# EAGLE library part DIMM84 (library con-amp2)
AMP connector
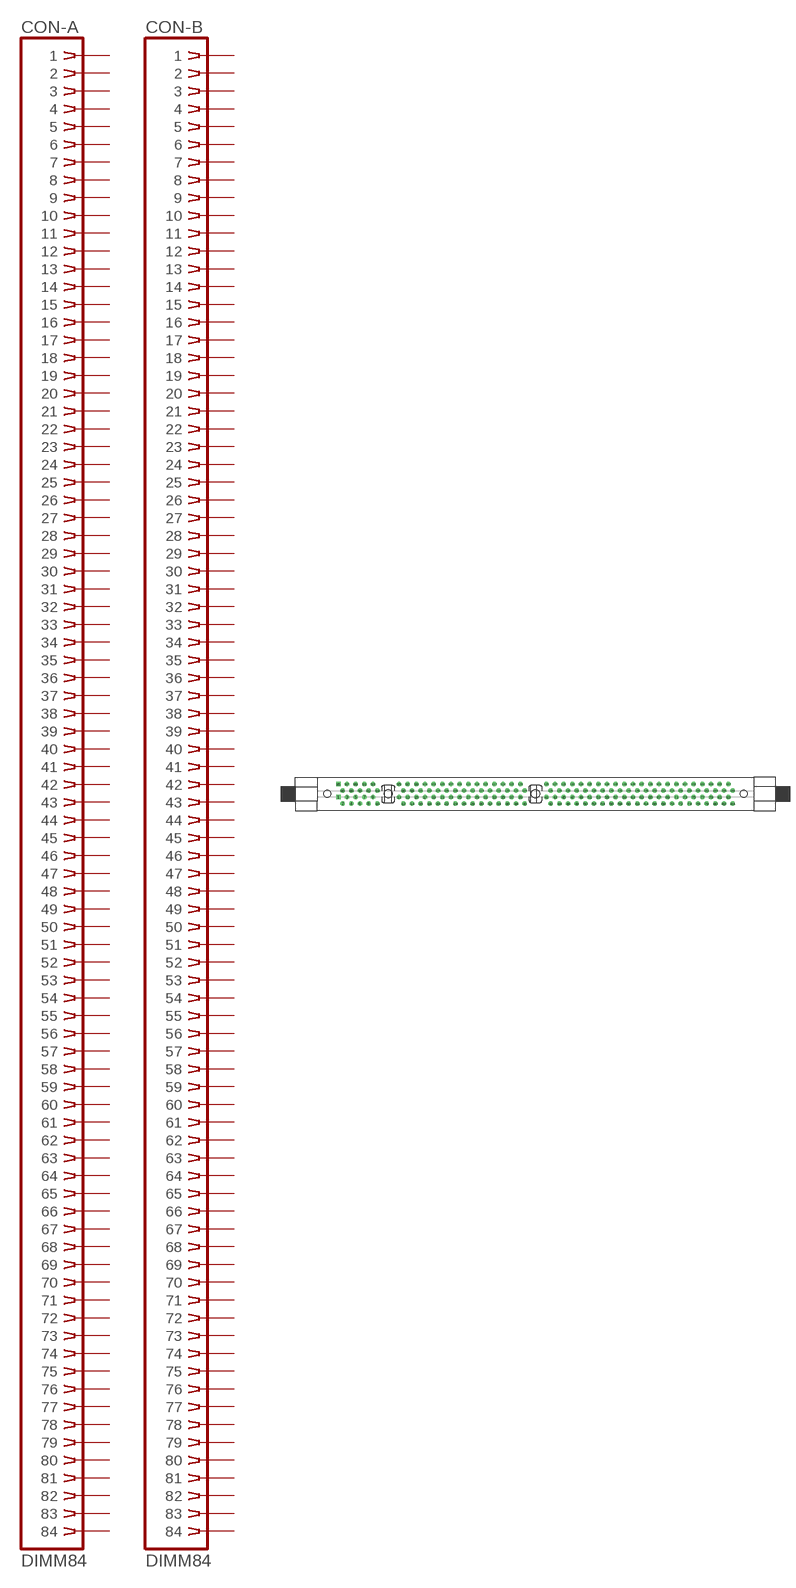
[diagram p18: symbol with the pads of 382830-1; footprint 382830-1]

Designator prefix CON; gates -A=SIMM84 -B=SIMM84

## DIMM84  [382830-1]
1  -A:1  pas
2  -A:2  pas
3  -A:3  pas
4  -A:4  pas
5  -A:5  pas
6  -A:6  pas
7  -A:7  pas
8  -A:8  pas
9  -A:9  pas
10  -A:10  pas
11  -A:11  pas
12  -A:12  pas
13  -A:13  pas
14  -A:14  pas
15  -A:15  pas
16  -A:16  pas
17  -A:17  pas
18  -A:18  pas
19  -A:19  pas
20  -A:20  pas
21  -A:21  pas
22  -A:22  pas
23  -A:23  pas
24  -A:24  pas
25  -A:25  pas
26  -A:26  pas
27  -A:27  pas
28  -A:28  pas
29  -A:29  pas
30  -A:30  pas
31  -A:31  pas
32  -A:32  pas
33  -A:33  pas
34  -A:34  pas
35  -A:35  pas
36  -A:36  pas
37  -A:37  pas
38  -A:38  pas
39  -A:39  pas
40  -A:40  pas
41  -A:41  pas
42  -A:42  pas
43  -A:43  pas
44  -A:44  pas
45  -A:45  pas
46  -A:46  pas
47  -A:47  pas
48  -A:48  pas
49  -A:49  pas
50  -A:50  pas
51  -A:51  pas
52  -A:52  pas
53  -A:53  pas
54  -A:54  pas
55  -A:55  pas
56  -A:56  pas
57  -A:57  pas
58  -A:58  pas
59  -A:59  pas
60  -A:60  pas
61  -A:61  pas
62  -A:62  pas
63  -A:63  pas
64  -A:64  pas
65  -A:65  pas
66  -A:66  pas
67  -A:67  pas
68  -A:68  pas
69  -A:69  pas
70  -A:70  pas
71  -A:71  pas
72  -A:72  pas
73  -A:73  pas
74  -A:74  pas
75  -A:75  pas
76  -A:76  pas
77  -A:77  pas
78  -A:78  pas
79  -A:79  pas
80  -A:80  pas
81  -A:81  pas
82  -A:82  pas
83  -A:83  pas
84  -A:84  pas
85  -B:1  pas
86  -B:2  pas
87  -B:3  pas
88  -B:4  pas
89  -B:5  pas
90  -B:6  pas
91  -B:7  pas
92  -B:8  pas
93  -B:9  pas
94  -B:10  pas
95  -B:11  pas
96  -B:12  pas
97  -B:13  pas
98  -B:14  pas
99  -B:15  pas
100  -B:16  pas
101  -B:17  pas
102  -B:18  pas
103  -B:19  pas
104  -B:20  pas
105  -B:21  pas
106  -B:22  pas
107  -B:23  pas
108  -B:24  pas
109  -B:25  pas
110  -B:26  pas
111  -B:27  pas
112  -B:28  pas
113  -B:29  pas
114  -B:30  pas
115  -B:31  pas
116  -B:32  pas
117  -B:33  pas
118  -B:34  pas
119  -B:35  pas
120  -B:36  pas
121  -B:37  pas
122  -B:38  pas
123  -B:39  pas
124  -B:40  pas
125  -B:41  pas
126  -B:42  pas
127  -B:43  pas
128  -B:44  pas
129  -B:45  pas
130  -B:46  pas
131  -B:47  pas
132  -B:48  pas
133  -B:49  pas
134  -B:50  pas
135  -B:51  pas
136  -B:52  pas
137  -B:53  pas
138  -B:54  pas
139  -B:55  pas
140  -B:56  pas
141  -B:57  pas
142  -B:58  pas
143  -B:59  pas
144  -B:60  pas
145  -B:61  pas
146  -B:62  pas
147  -B:63  pas
148  -B:64  pas
149  -B:65  pas
150  -B:66  pas
151  -B:67  pas
152  -B:68  pas
153  -B:69  pas
154  -B:70  pas
155  -B:71  pas
156  -B:72  pas
157  -B:73  pas
158  -B:74  pas
159  -B:75  pas
160  -B:76  pas
161  -B:77  pas
162  -B:78  pas
163  -B:79  pas
164  -B:80  pas
165  -B:81  pas
166  -B:82  pas
167  -B:83  pas
168  -B:84  pas

## Footprint 382830-1 (pad centres in mm)
Std. DRAM 5 Volt
drill 0.813 square: 1 -57.785,-0.953; 85 -57.785,2.857
drill 0.813 octagon: 2 -56.515,-2.857; 3 -55.245,-0.953; 4 -53.975,-2.857; 5 -52.705,-0.953; 6 -51.435,-2.857; 7 -50.165,-0.953; 8 -48.895,-2.857; 9 -47.625,-0.953; 10 -46.355,-2.857; 11 -40.005,-0.953; 12 -38.735,-2.857; 13 -37.465,-0.953; 14 -36.195,-2.857; 15 -34.925,-0.953; 16 -33.655,-2.857; 17 -32.385,-0.953; 18 -31.115,-2.857; 19 -29.845,-0.953; 20 -28.575,-2.857; 21 -27.305,-0.953; 22 -26.035,-2.857; 23 -24.765,-0.953; 24 -23.495,-2.857; 25 -22.225,-0.953; 26 -20.955,-2.857; 27 -19.685,-0.953; 28 -18.415,-2.857; 29 -17.145,-0.953; 30 -15.875,-2.857; 31 -14.605,-0.953; 32 -13.335,-2.857; 33 -12.065,-0.953; 34 -10.795,-2.857; 35 -9.525,-0.953; 36 -8.255,-2.857; 37 -6.985,-0.953; 38 -5.715,-2.857; 39 -4.445,-0.953; 40 -3.175,-2.857; 41 3.175,-0.953; 42 4.445,-2.857; 43 5.715,-0.953; 44 6.985,-2.857; 45 8.255,-0.953; 46 9.525,-2.857; 47 10.795,-0.953; 48 12.065,-2.857; 49 13.335,-0.953; 50 14.605,-2.857; 51 15.875,-0.953; 52 17.145,-2.857; 53 18.415,-0.953; 54 19.685,-2.857; 55 20.955,-0.953; 56 22.225,-2.857; 57 23.495,-0.953; 58 24.765,-2.857; 59 26.035,-0.953; 60 27.305,-2.857; 61 28.575,-0.953; 62 29.845,-2.857; 63 31.115,-0.953; 64 32.385,-2.857; 65 33.655,-0.953; 66 34.925,-2.857; 67 36.195,-0.953; 68 37.465,-2.857; 69 38.735,-0.953; 70 40.005,-2.857; 71 41.275,-0.953; 72 42.545,-2.857; 73 43.815,-0.953; 74 45.085,-2.857; 75 46.355,-0.953; 76 47.625,-2.857; 77 48.895,-0.953; 78 50.165,-2.857; 79 51.435,-0.953; 80 52.705,-2.857; 81 53.975,-0.953; 82 55.245,-2.857; 83 56.515,-0.953; 84 57.785,-2.857; 86 -56.515,0.953; 87 -55.245,2.857; 88 -53.975,0.953; 89 -52.705,2.857; 90 -51.435,0.953; 91 -50.165,2.857; 92 -48.895,0.953; 93 -47.625,2.857; 94 -46.355,0.953; 95 -40.005,2.857; 96 -38.735,0.953; 97 -37.465,2.857; 98 -36.195,0.953; 99 -34.925,2.857; 100 -33.655,0.953; 101 -32.385,2.857; 102 -31.115,0.953; 103 -29.845,2.857; 104 -28.575,0.953; 105 -27.305,2.857; 106 -26.035,0.953; 107 -24.765,2.857; 108 -23.495,0.953; 109 -22.225,2.857; 110 -20.955,0.953; 111 -19.685,2.857; 112 -18.415,0.953; 113 -17.145,2.857; 114 -15.875,0.953; 115 -14.605,2.857; 116 -13.335,0.953; 117 -12.065,2.857; 118 -10.795,0.953; 119 -9.525,2.857; 120 -8.255,0.953; 121 -6.985,2.857; 122 -5.715,0.953; 123 -4.445,2.857; 124 -3.175,0.953; 125 3.175,2.857; 126 4.445,0.953; 127 5.715,2.857; 128 6.985,0.953; 129 8.255,2.857; 130 9.525,0.953; 131 10.795,2.857; 132 12.065,0.953; 133 13.335,2.857; 134 14.605,0.953; 135 15.875,2.857; 136 17.145,0.953; 137 18.415,2.857; 138 19.685,0.953; 139 20.955,2.857; 140 22.225,0.953; 141 23.495,2.857; 142 24.765,0.953; 143 26.035,2.857; 144 27.305,0.953; 145 28.575,2.857; 146 29.845,0.953; 147 31.115,2.857; 148 32.385,0.953; 149 33.655,2.857; 150 34.925,0.953; 151 36.195,2.857; 152 37.465,0.953; 153 38.735,2.857; 154 40.005,0.953; 155 41.275,2.857; 156 42.545,0.953; 157 43.815,2.857; 158 45.085,0.953; 159 46.355,2.857; 160 47.625,0.953; 161 48.895,2.857; 162 50.165,0.953; 163 51.435,2.857; 164 52.705,0.953; 165 53.975,2.857; 166 55.245,0.953; 167 56.515,2.857; 168 57.785,0.953
hole 2.032 at -60.96,0
hole 2.032 at 60.96,0
hole 2.362 at 0,0
hole 2.362 at -43.18,0